# Altium schematic symbol library Solar cell strip.SchLib: 2 symbols
Pins are listed as number, name and electrical type; pins without a type are passive.

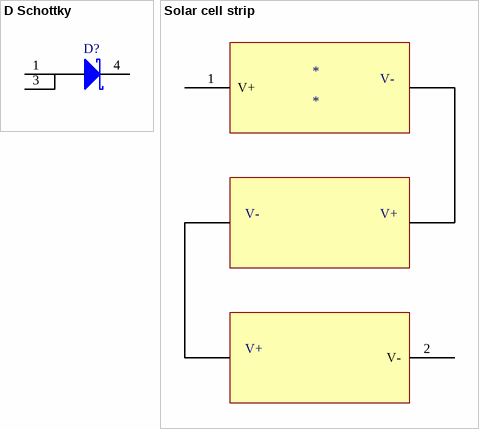
[diagram p0: symbols D Schottky to Solar cell strip]

## D Schottky
designator D?
Schottky Diode; Published: 8-Jun-2000; LatestRevisionDate: 17-Jul-2002; LatestRevisionNote: Re-released for DXP Platform.; PackageReference: SMB; Publisher: Altium Limited; PackageDescription: DO-214-AA/SMB; 2 C-Bend Leads; Body 5.3 x 3.6 mm, inc. leads (LxW); Code_JEDEC: DO-214-AA
footprint DIODE, SCHOTTKY, DPAK
pins: 1 A, 3 A, 4 K

## Solar cell strip
designator *
footprint SOLARCELLSTRIP (Solar cell footprint)
pins: 1 V+, 2 V-